# EAGLE library part WE-RJ45_LAN_1000_BASET_SMD_SDT_YELLOW_GREEN (library Wuerth_Elektronik_eiSos_Version_6-12)
WE-RJ45 LAN Transformer 1000 BaseT SMD, STD with LED
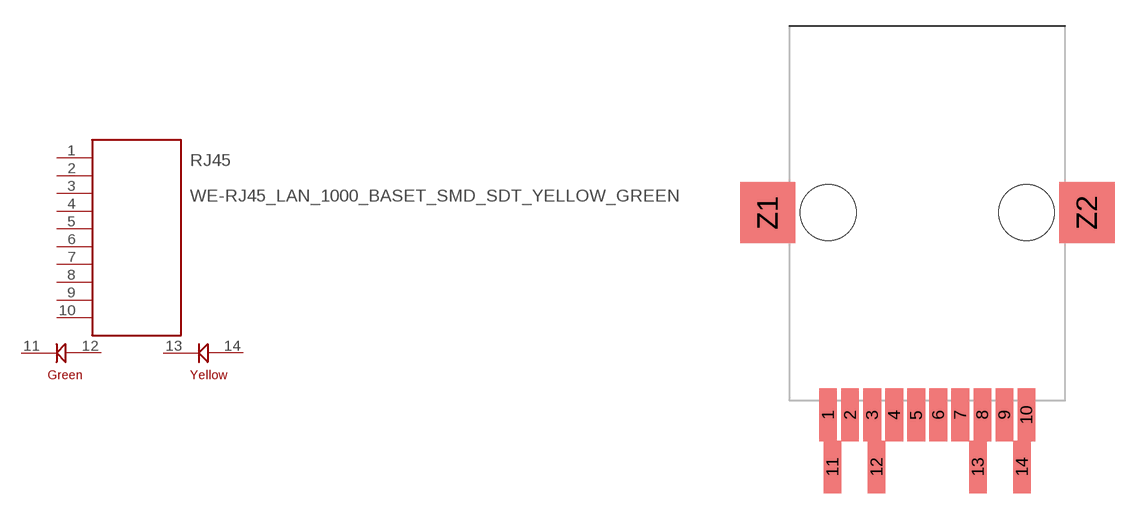
[diagram p132: symbol with the pads of WE-RJ45_LAN_1000_BASET_SMD_7498111121; footprint WE-RJ45_LAN_1000_BASET_SMD_7498111121]

Designator prefix RJ45

## WE-RJ45_LAN_1000_BASET_SMD_SDT_YELLOW_GREEN_7498111121  [WE-RJ45_LAN_1000_BASET_SMD_7498111121]
1  1  pas
2  2  pas
3  3  pas
4  4  pas
5  5  pas
6  6  pas
7  7  pas
8  8  pas
9  9  pas
10  10  pas
11  11  pas
12  12  pas
13  13  pas
14  14  pas

## Footprint WE-RJ45_LAN_1000_BASET_SMD_7498111121 (pad centres in mm)
WE-RJ45 LAN Transformer 1000 BaseT SMD, STD with LED
smd 1.02 x 3.05: 1 -5.715,-11.68; 2 -4.445,-11.68; 3 -3.175,-11.68; 4 -1.905,-11.68; 5 -0.635,-11.68; 6 0.635,-11.68; 7 1.905,-11.68; 8 3.175,-11.68; 9 4.445,-11.68; 10 5.715,-11.68; 11 -5.46,-14.68; 12 -2.92,-14.68; 13 2.92,-14.68; 14 5.46,-14.68
smd 3.18 x 3.5: Z1 -9.2,0; Z2 9.2,0
hole 3.22 at 5.715,0
hole 3.22 at -5.715,0